# Altium schematic symbol library Regulators.SchLib: 2 symbols
Pins are listed as number, name and electrical type; pins without a type are passive.

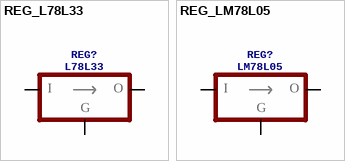
[diagram p0: symbols REG_L78L33 to REG_LM78L05]

## REG_L78L33
designator REG?, comment L78L33
Price: 0.90; Package: TO-92
footprint TO92
pins: 1 VO (power), 2 GND (power), 3 VI (power)
text: I; O; G

## REG_LM78L05
designator REG?, comment LM78L05
78L05; Price: 0.01; Package: TO-92
footprint TO92
pins: 1 VI (power), 2 GND (power), 3 VO (power)
text: I; O; G